# EAGLE library part MPU6050 (library Arsenio)
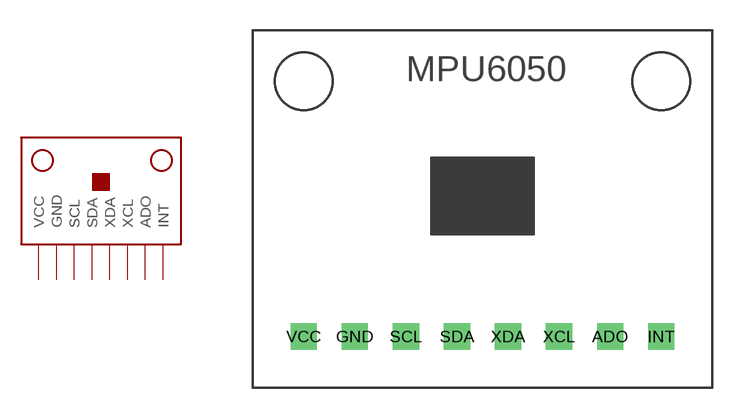
[diagram p9: symbol with the pads of MPU6050; footprint MPU6050]

Designator prefix -

## MPU6050  [MPU6050]
ADO  ADO
GND  GND
INT  INT
SCL  SCL
SDA  SDA
VCC  VCC
XCL  XCL
XDA  XDA

## Footprint MPU6050 (pad centres in mm)
drill 0.8 square: ADO 7.62,0; GND -5.08,0; INT 10.16,0; SCL -2.54,0; SDA 0,0; VCC -7.62,0; XCL 5.08,0; XDA 2.54,0